# EAGLE library part ADAFRUIT_FEATHER (library UNIT_Biblioteca_Modulos)
Adafruit Feather Source: Datasheet <https://learn.adafruit.com/adafruit-feather/overview> SKU: Propietario: UNIT Electronics Desarrollador: Alberto Villanueva
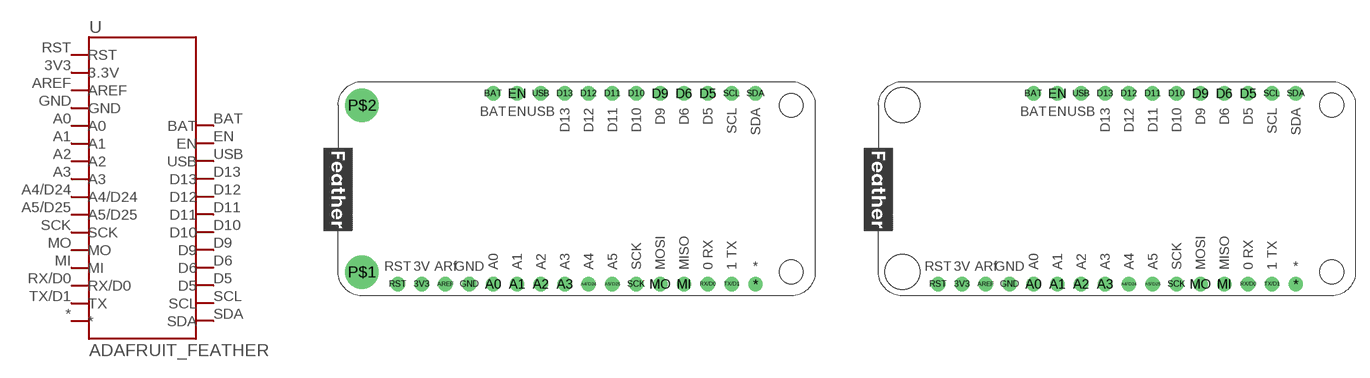
[diagram p23: symbol with the pads of ADAFRUIT_FEATHER; footprints ADAFRUIT_FEATHER, ADAFRUIT_FEATHER_S/N_BARRENOS]

Designator prefix U

## ADAFRUIT_FEATHER (CLASS: Modules; DESCRIPTION: Adafruit Feather; MANUFACTURER_NAME: Adafruit)  [ADAFRUIT_FEATHER]
3V3  3.3V
*  *
A0  A0
A1  A1
A2  A2
A3  A3
A4/D24  A4/D24
A5/D25  A5/D25
AREF  AREF
BAT  BAT
D5  D5
D6  D6
D9  D9
D10  D10
D11  D11
D12  D12
D13  D13
EN  EN
GND  GND
MI  MI
MO  MO
RST  RST
RX/D0  RX/D0
SCK  SCK
SCL  SCL
SDA  SDA
TX/D1  TX
USB  USB

## ADAFRUIT_FEATHERS/N_BARRENOS  [ADAFRUIT_FEATHER_S/N_BARRENOS]
Pads as for ADAFRUIT_FEATHER

## ADAFRUIT_FEATHERSMD (CLASS: MODULES)  [FEATHER_SMD]
0RX  RX/D0
1TX  TX
3V3  3.3V
*  *
A0  A0
A1  A1
A2  A2
A3  A3
A4  A4/D24
A5  A5/D25
AREF  AREF
D5  D5
D6  D6
D9  D9
D10  D10
D11  D11
D12  D12
D13  D13
EN  EN
GND  GND
MISO  MI
MOSI  MO
RST  RST
SCK  SCK
SCL  SCL
SDA  SDA
USB  USB
VBAT  BAT

## Footprint ADAFRUIT_FEATHER (pad centres in mm)
drill 1.02: 3V3 -16.51,-10.16; * 19.05,-10.16; A0 -8.89,-10.16; A1 -6.35,-10.16; A2 -3.81,-10.16; A3 -1.27,-10.16; A4/D24 1.27,-10.16; A5/D25 3.81,-10.16; AREF -13.97,-10.16; BAT -8.89,10.16; D5 13.97,10.16; D6 11.43,10.16; D9 8.89,10.16; D10 6.35,10.16; D11 3.81,10.16; D12 1.27,10.16; D13 -1.27,10.16; EN -6.35,10.16; GND -11.43,-10.16; MI 11.43,-10.16; MO 8.89,-10.16; RST -19.05,-10.16; RX/D0 13.97,-10.16; SCK 6.35,-10.16; SCL 16.51,10.16; SDA 19.05,10.16; TX/D1 16.51,-10.16; USB -3.81,10.16
drill 2.54: P$1 -22.86,-8.89; P$2 -22.86,8.89
hole 2.54 at 22.86,8.89
hole 2.54 at 22.86,-8.89

## Footprint ADAFRUIT_FEATHER_S/N_BARRENOS (pad centres in mm)
drill 1.02: 3V3 -16.51,-10.16; * 19.05,-10.16; A0 -8.89,-10.16; A1 -6.35,-10.16; A2 -3.81,-10.16; A3 -1.27,-10.16; A4/D24 1.27,-10.16; A5/D25 3.81,-10.16; AREF -13.97,-10.16; BAT -8.89,10.16; D5 13.97,10.16; D6 11.43,10.16; D9 8.89,10.16; D10 6.35,10.16; D11 3.81,10.16; D12 1.27,10.16; D13 -1.27,10.16; EN -6.35,10.16; GND -11.43,-10.16; MI 11.43,-10.16; MO 8.89,-10.16; RST -19.05,-10.16; RX/D0 13.97,-10.16; SCK 6.35,-10.16; SCL 16.51,10.16; SDA 19.05,10.16; TX/D1 16.51,-10.16; USB -3.81,10.16

## Footprint FEATHER_SMD (pad centres in mm)
smd 1.02 x 1.9: 0RX 13.97,-11.81; 1TX 16.51,-8.51; 3V3 -16.51,-11.81; * 19.05,-11.81; A0 -8.89,-8.51; A1 -6.35,-11.81; A2 -3.81,-8.51; A3 -1.27,-11.81; A4 1.27,-8.51; A5 3.81,-11.81; AREF -13.97,-8.51; D5 13.97,8.51; D6 11.43,11.81; D9 8.89,8.51; D10 6.35,11.81; D11 3.81,8.51; D12 1.27,11.81; D13 -1.27,8.51; EN -6.35,8.51; GND -11.43,-11.81; MISO 11.43,-8.51; MOSI 8.89,-11.81; RST -19.05,-8.51; SCK 6.35,-8.51; SCL 16.51,11.81; SDA 19.05,8.51; USB -3.81,11.81; VBAT -8.89,11.81